# Altium footprint library PCB Horizontal Banana Connector.PcbLib: 1 footprints
Each footprint in its own frame and in the unit in brackets; x right, y up, seen from the top. Pads: shape width x height; smd on the part's side, far side on the other; paste and mask are expansions set on the pad; w line width, h text height; cw(c..) or ccw(c..) is an arc to the next point about the centre after c.
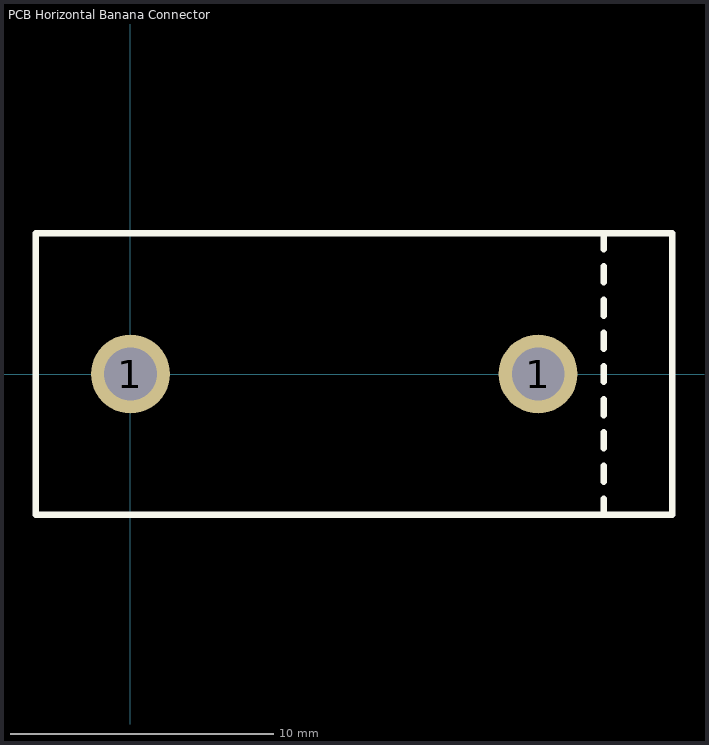
[diagram p0: the footprint, top view; thin cyan lines are the x and y axes]

## PCB Horizontal Banana Connector [mm] "Horizontal PCB Mount banana connector"
height 5.156
pads (2):
  round 3 hole 2: 1(0,0) 1(15.5,0)
Top Overlay:
  lines w0.254: 17.998,-5.349 17.998,-4.75 ; 17.998,-4.087 17.998,-3.487 ; 17.998,-2.824 17.998,-2.225 ; 17.998,-1.562 17.998,-0.963 ; 17.998,-0.3 17.998,0.3 ; 17.998,0.963 17.998,1.562 ; 17.998,2.225 17.998,2.824 ; 17.998,3.487 17.998,4.087 ; 17.998,4.75 17.998,5.349 ; -3.599,-5.349 -3.599,5.349 20.598,5.349 20.598,-5.349 -3.599,-5.349